# EAGLE library part ATA6663 (library my_lib)
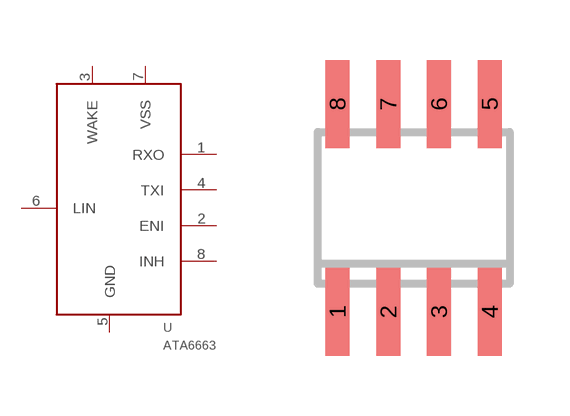
[diagram p1: symbol with the pads of SO-08; footprint SO-08]

Designator prefix -

## ATA6663  [SO-08]
1  RXO  out
2  ENI  in
3  WAKE
4  TXI  in
5  GND  pwr
6  LIN
7  VSS  pwr
8  INH  out

## Footprint SO-08 (pad centres in mm)
Small Outline Narrow Plastic Gull Wing 150-mil body, package type SN
smd 0.6 x 2.2: 1 -1.905,-2.6; 2 -0.635,-2.6; 3 0.635,-2.6; 4 1.905,-2.6; 5 1.905,2.6; 6 0.635,2.6; 7 -0.635,2.6; 8 -1.905,2.6